# EAGLE library part IV11 (library iv11)
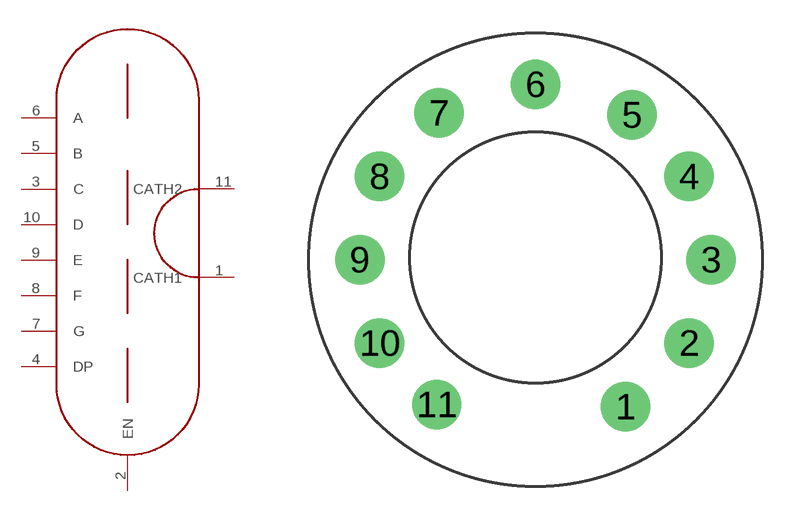
[diagram p1: symbol with the pads of IV11; footprint IV11]

Designator prefix T

## IV11  [IV11]
1  CATH1
2  EN
3  C
4  DP
5  B
6  A
7  G
8  F
9  E
10  D
11  CATH2

## Footprint IV11 (pad centres in mm)
drill 1.5: 1 4.1,-6.7; 2 7,-3.8; 3 8,0; 4 7,3.8; 5 4.4,6.6; 6 0,8; 7 -4.4,6.7; 8 -7.1,3.8; 9 -8,0; 10 -7.1,-3.8; 11 -4.5,-6.6